# EAGLE library part TC1602E (library TC1602E)
LCD Anzeige TC1602E(L) © Dipl. Päd. Otmar Hettrich-Keller 11/08 o.hettrich-keller@htl-leonding.ac.at Datenblatt: http://www.lcd-module.de/deu/pdf/doma/dip162-d.pdf
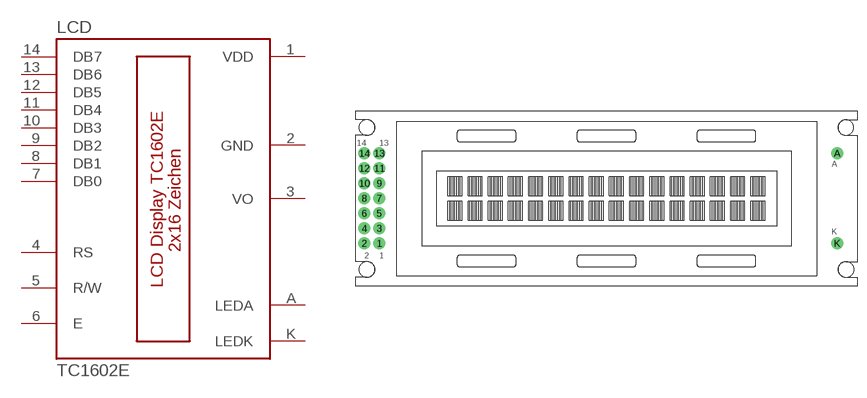
[diagram p0: symbol with the pads of TC1602E; footprint TC1602E]

Designator prefix LCD

## TC1602E  [TC1602E]
1  VDD  pwr
2  GND  pwr
3  VO  pas
4  RS
5  R/W
6  E
7  DB0
8  DB1
9  DB2
10  DB3
11  DB4
12  DB5
13  DB6
14  DB7
A  LEDA  pas
K  LEDK  pas

## Footprint TC1602E (pad centres in mm)
drill 0.9 pad 2 round: 1 -38.1,-7.62; 2 -40.64,-7.62; 3 -38.1,-5.08; 4 -40.64,-5.08; 5 -38.1,-2.54; 6 -40.64,-2.54; 7 -38.1,0; 8 -40.64,0; 9 -38.1,2.54; 10 -40.64,2.54; 11 -38.1,5.08; 12 -40.64,5.08; 13 -38.1,7.62; 14 -40.64,7.62; A 39.37,7.62; K 39.37,-7.62
hole 2.6 at -40.172,11.976
hole 2.6 at -40.172,-12.026
hole 2.6 at 40.871,-12.026
hole 2.6 at 40.84,11.976